# Altium footprint library NEW_PCB_2021-12-29.PcbLib: 1 footprints
Each footprint in its own frame and in the unit in brackets; x right, y up, seen from the top. Pads: shape width x height; smd on the part's side, far side on the other; paste and mask are expansions set on the pad; w line width, h text height; cw(c..) or ccw(c..) is an arc to the next point about the centre after c.
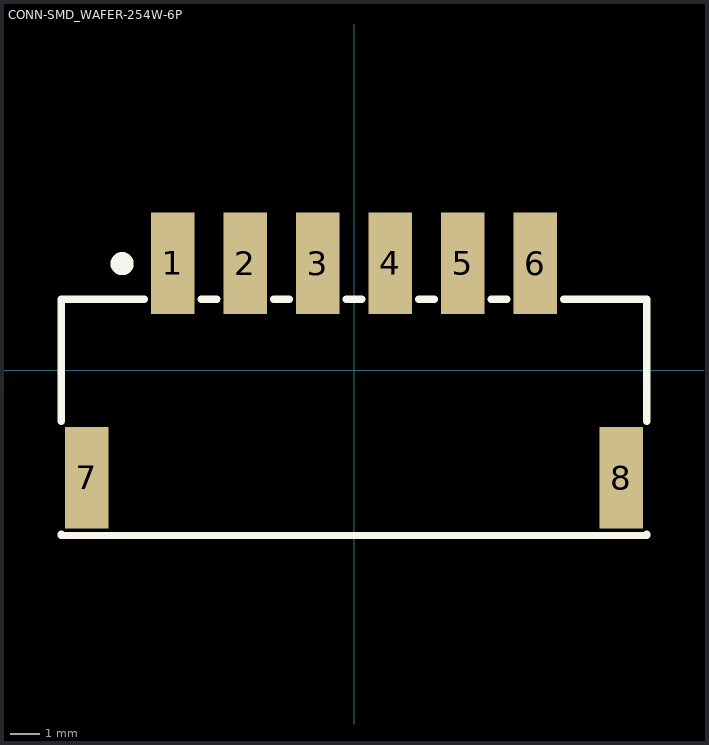
[diagram p0: the footprint, top view; thin cyan lines are the x and y axes]

## CONN-SMD_WAFER-254W-6P [mm]
pads (8):
  rect 1.5x3.5 smd: 1(-6.25,3.7) 2(-3.75,3.7) 3(-1.25,3.7) 4(1.25,3.7) 5(3.75,3.7) 6(6.25,3.7) 7(-9.23,-3.7) 8(9.23,-3.7)
Top Overlay:
  circle w0.4: c-8.001,3.683 r0.2
  lines w0.254: -10.1,-5.647 -10.1,-5.7 -8.85,-5.7 10.1,-5.7 ; -10.1,-1.753 -10.1,2.45 -7.231,2.45 ; -5.269,2.45 -4.731,2.45 ; -2.769,2.45 -2.231,2.45 ; -0.269,2.45 0.269,2.45 ; 2.231,2.45 2.769,2.45 ; 4.731,2.45 5.269,2.45 ; 7.645,2.45 7.769,2.45 7.231,2.45 10.1,2.45 10.1,-1.753 ; 10.1,-5.698 10.1,-5.647
Mechanical 15:
  circle w0.5: c-6.3,3.55 r0.25
  circle w0.4: c-6.223,3.683 r0.2